# Altium schematic symbol library 691 212 710 0xx.SchLib: 2 symbols
Pins are listed as number, name and electrical type; pins without a type are passive.

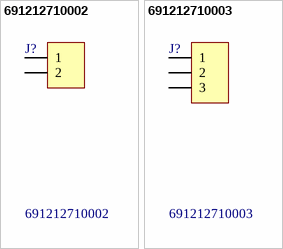
[diagram p0: symbols 691212710002 to 691212710003]

## 691212710002
designator J?
WR-TBL Horizontal Entry Modular with Rising Cage Clamp,Serie 212 - 5.00 mm; Manufacturer: Würth Elektronik eiSos GmbH; ComponentLink1 Description: Manufacturer; ComponentLink2 Description: Datasheet; NoPins: 2; Created Date: 25 Novenber 2013; partNo: 691212710002; ComponentLink1URL: http://www.we-online.com; ComponentLink2URL: http://katalog.we-online.de/em/datasheet/6912127200xx.pdf; Created by: Karrer Zheng
footprint 691212710002 (5,00mm - modular - green - Horizontal entry with rising cage clamp -  14,3mm height - 02p)
pins: 1, 2

## 691212710003
designator J?
WR-TBL Horizontal Entry Modular with Rising Cage Clamp,Serie 212 - 5.00 mm; Manufacturer: Würth Elektronik eiSos GmbH; ComponentLink1 Description: Manufacturer; ComponentLink2 Description: Datasheet; NoPins: 3; Created Date: 25 Novenber 2013; partNo: 691212710003; ComponentLink1URL: http://www.we-online.com; ComponentLink2URL: http://katalog.we-online.de/em/datasheet/6912127200xx.pdf; Created by: Karrer Zheng
footprint 691212710003 (5,00mm - modular - green - Horizontal entry with rising cage clamp -  14,3mm height - 03p)
pins: 1, 2, 3